# Altium footprint library ADXL335.PcbLib: 1 footprints
Each footprint in its own frame and in the unit in brackets; x right, y up, seen from the top. Pads: shape width x height; smd on the part's side, far side on the other; paste and mask are expansions set on the pad; w line width, h text height; cw(c..) or ccw(c..) is an arc to the next point about the centre after c.
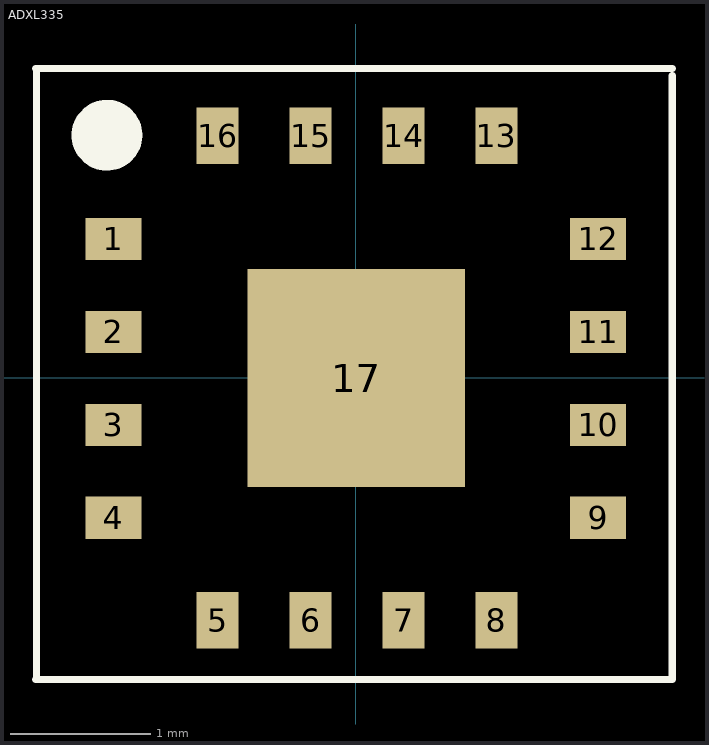
[diagram p0: the footprint, top view; thin cyan lines are the x and y axes]

## ADXL335 [mm]
pads (17):
  rect 0.4x0.3 smd: 1(-1.725,0.99) 2(-1.725,0.328) 3(-1.725,-0.334) 4(-1.725,-0.996) 9(1.725,-0.996) 10(1.725,-0.334) 11(1.725,0.328) 12(1.725,0.99)
  rect 0.3x0.4 smd: 5(-0.984,-1.725) 6(-0.322,-1.725) 7(0.34,-1.725) 8(1.002,-1.725) 13(1.002,1.725) 14(0.34,1.725) 15(-0.322,1.725) 16(-0.984,1.725)
  rect 1.55x1.55 all layers, no hole: 17(0.003,-0.001)
Top Overlay:
  circle w0.254: c-1.772,1.728 r0.125
  lines w0.051: -2.278,-2.147 2.253,-2.147 2.253,2.153 ; -2.278,2.203 2.253,2.203 ; -2.272,-2.122 -2.272,2.178